# Altium footprint library Diode.PcbLib: 8 footprints
Each footprint in its own frame and in the unit in brackets; x right, y up, seen from the top. Pads: shape width x height; smd on the part's side, far side on the other; paste and mask are expansions set on the pad; w line width, h text height; cw(c..) or ccw(c..) is an arc to the next point about the centre after c.
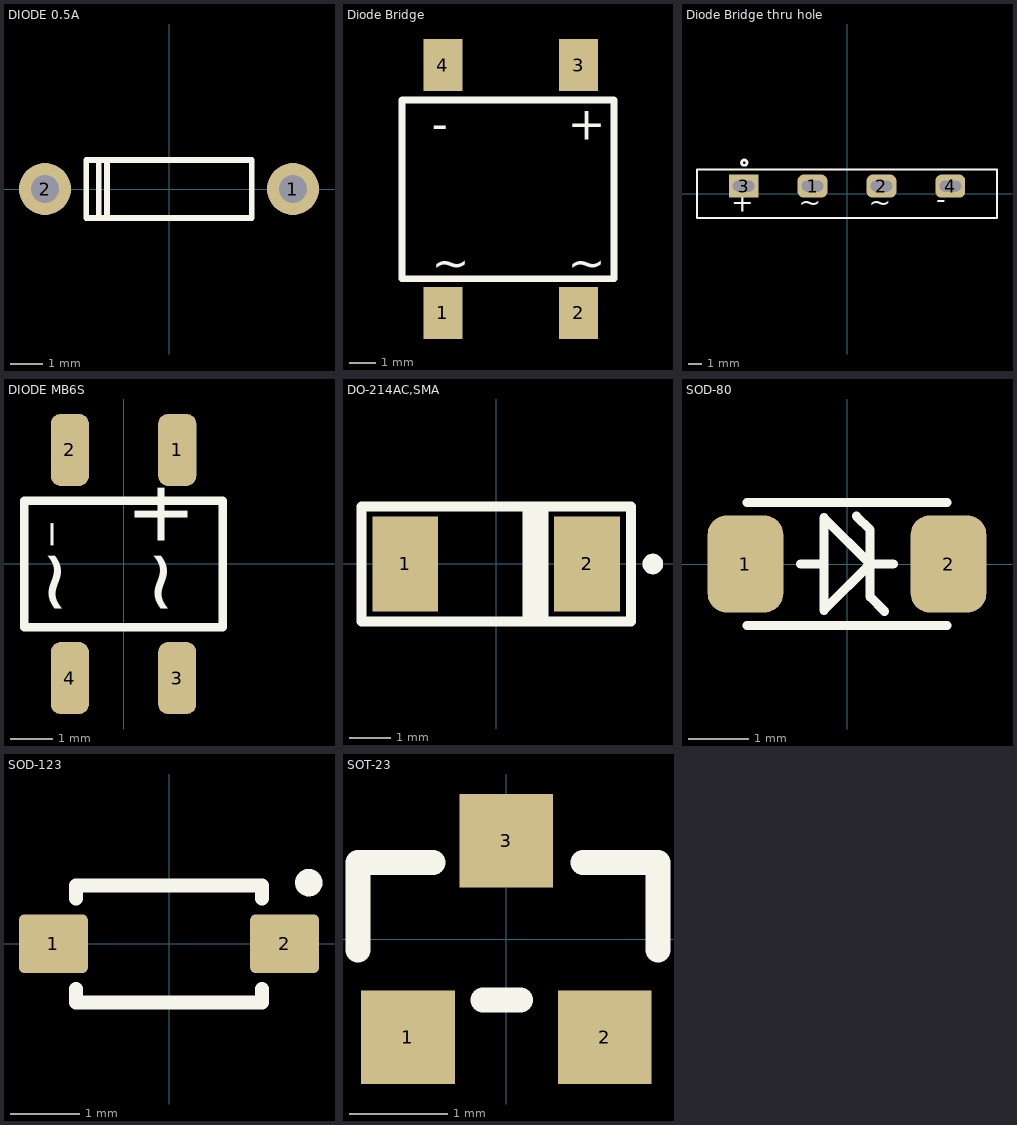
[diagram p0: the footprints below, top view; thin cyan lines are the x and y axes]

## DIODE 0.5A [mm] "Diode muoi, xung"
height 2.032
pads (2):
  round 1.6 hole 0.85: 1(3.81,0) 2(-3.81,0)
Top Overlay:
  lines w0.178: -2.159,-0.889 -2.159,0.889 ; -1.905,-0.889 -1.905,0.889 ; -2.54,-0.889 -2.54,0.889 2.54,0.889 2.54,-0.889 -2.54,-0.889
3D body "Diode 1N4148.STEP": height 2.33, standoff -3.13, extent -4.156,-0.955 4.176,0.955

## Diode Bridge [mm] "DB107S"
height 3
pads (4):
  rect 1.5x2 smd: 1(5,10) 2(10.2,10) 3(10.2,19.5) 4(5,19.5)
Top Overlay:
  lines w0.254: 3.429,11.303 3.429,18.161 11.557,18.161 11.557,11.303 3.429,11.303
  text "~" at 9.779,11.303 h1.27
  text "~" at 4.572,11.303 h1.27
  text "-" at 4.572,16.637 h1.27
  text "+" at 9.779,16.637 h1.27
3D body "User Library-DFS.STEP": height 2.61, standoff 0.02, extent 3.5,9.583 11.7,19.883

## Diode Bridge thru hole [mm]
pads (4):
  rrect50% 2.2x1.7 hole 0.8 slot 1.6 at 0 deg: 1(-2.55,0.56) 2(2.55,0.56) 4(7.65,0.56)
  rect 2.2x1.7 hole 0.8 slot 1.6 at 0 deg: 3(-7.65,0.56)
Top Overlay:
  circle w0.203: c-7.6,2.3 r0.2
  lines w0.152: -11.1,-1.8 -11.027,-1.8 11.1,-1.8 11.1,1.8 -11.1,1.8 -11.1,-1.8
  text "-" at 6.622,-1.6 h2.5
  text "+" at -8.564,-1.8 h2.5
  text "~" at 1.616,-1.8 h2.5
  text "~" at -3.564,-1.8 h2.5
3D body "GBU8J.STEP": height 21.97, standoff -14.33, extent -11.025,-1.715 11.025,1.715

## DIODE MB6S [mm]
pads (4):
  rrect50% 0.9x1.7 smd: 1(1.27,2.7) 2(-1.27,2.7) 3(1.27,-2.7) 4(-1.27,-2.7)
Top Overlay:
  lines w0.203: -2.35,-1.5 2.35,-1.5 2.35,1.5 -2.35,1.5 -2.35,-1.5
  text "-" at -0.7,0.334 h2.5
  text "+" at 2,0.334 h2.5
  text "~" at 2,-1.266 h2.5
  text "~" at -0.5,-1.266 h2.5
3D body "SOIC-4 (Fairchild).SLDPRT": height 1.75, standoff 0, extent -2.35,-3.1 2.35,3.1

## DO-214AC,SMA [mm] "Didode [1N4007,SS14,...]"
pads (2):
  rect 1.6x2.3 smd: 1(-2.21,0) 2(2.21,0)
Top Overlay:
  circle w0.25: c3.81,0 r0.125
  rectangle: 0.635,-1.35 1.27,1.35
  lines w0.25: -3.277,-1.397 3.277,-1.397 3.277,1.397 -3.277,1.397 -3.277,-1.397
3D body "DO-214AC SMA.STEP": height 2.4, standoff 0, extent -2.6,-1.3 2.6,1.3

## SOD-80 [mm]
pads (2):
  rrect50% 1.25x1.6 smd: 1(-1.675,0) 2(1.675,0)
Top Overlay:
  lines w0.152: -1.651,-1.016 1.651,-1.016 ; -1.651,1.016 1.651,1.016 ; -0.762,0 -0.381,0 ; 0.155,0.79 0.381,0.564 0.381,-0.54 0.619,-0.778 ; 0.762,0 0.381,0 ; 0.381,0 -0.381,0.762 -0.381,-0.762 0.381,0
3D body "User Library-Diode MELF.step": height 1.45, standoff -0.05, extent -1.75,-0.75 1.75,0.75

## SOD-123 [mm]
pads (2):
  rrect18% 1x0.85 smd: 1(-1.68,0) 2(1.68,0)
Top Overlay:
  circle w0.2: c2.032,0.889 r0.1
  lines w0.203: -1.35,-0.66 -1.35,-0.85 1.35,-0.85 1.35,-0.66 ; -1.35,0.66 -1.35,0.85 1.35,0.85 1.35,0.66
3D body "step_temp.STEP": height 1.48, standoff 0.03, extent -1.825,-0.775 1.825,0.775

## SOT-23 [mm] "SOT 23 _ 1-3-2"
height 1.27
pads (3):
  rect 0.95x0.95 smd: 1(-1,-1) 2(1,-1) 3(0,1)
Top Overlay:
  lines w0.254: -1.508,-0.111 -1.508,0.778 -0.746,0.778 ; -0.238,-0.619 0.143,-0.619 ; 0.778,0.778 1.54,0.778 1.54,-0.111
3D body "User Library-SOT-23-3.STEP": height 1.06, standoff 0.05, extent -1.5,-1.25 1.5,1.25